# Altium footprint library STL42P6LLF6.PcbLib: 1 footprints
Each footprint in its own frame and in the unit in brackets; x right, y up, seen from the top. Pads: shape width x height; smd on the part's side, far side on the other; paste and mask are expansions set on the pad; w line width, h text height; cw(c..) or ccw(c..) is an arc to the next point about the centre after c.
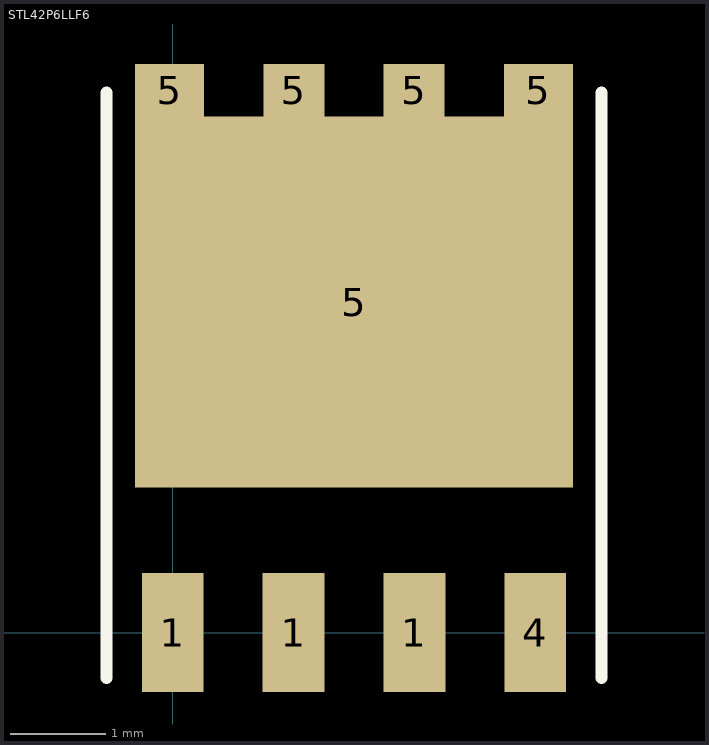
[diagram p0: the footprint, top view; thin cyan lines are the x and y axes]

## STL42P6LLF6 [mm]
pads (9):
  rect 0.65x1.25 smd: 1(0,0) 1(1.27,0) 1(2.54,0) 4(3.81,0)
  rect 0.725x0.55 smd: 5(-0.032,5.7) 5(3.842,5.7)
  rect 0.637x0.55 smd: 5(1.274,5.7) 5(2.536,5.7)
  rect 4.6x3.9 smd: 5(1.905,3.475)
Top Overlay:
  lines w0.127: -0.695,-0.475 -0.695,5.675 ; 4.505,-0.475 4.505,5.675